# Altium schematic symbol library Sch_SX1308.SchLib: 1 symbol
Pins are listed as number, name and electrical type; pins without a type are passive.

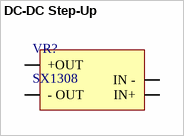
[diagram p0: symbol DC-DC Step-Up]

## DC-DC Step-Up
designator VR?, comment SX1308  (no BOM)
Mini DC-DC конвертер підвищує 2.5..10В 5В/8В/9В/12В на SX1308
footprint DC-DC Step-Up Footprint
pins: 0 - OUT (power), 1 +OUT (power), 2 IN - (power), 3 IN+ (power)